# Altium footprint library WQFN24.PcbLib: 1 footprints
Each footprint in its own frame and in the unit in brackets; x right, y up, seen from the top. Pads: shape width x height; smd on the part's side, far side on the other; paste and mask are expansions set on the pad; w line width, h text height; cw(c..) or ccw(c..) is an arc to the next point about the centre after c.
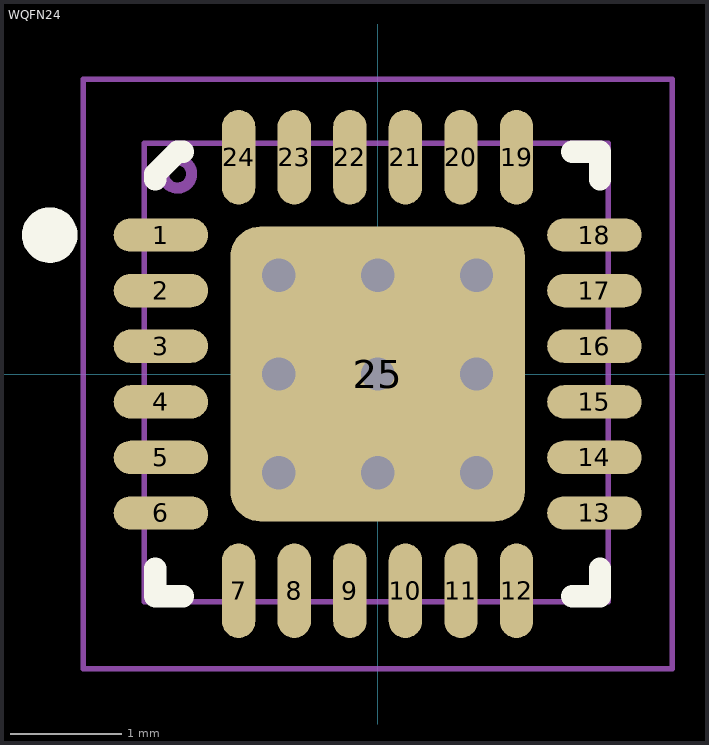
[diagram p0: the footprint, top view; thin cyan lines are the x and y axes]

## WQFN24 [mm]
pads (25):
  oval 0.85x0.3 smd mask+0.05: 1(-1.95,1.25) 2(-1.95,0.75) 3(-1.95,0.25) 4(-1.95,-0.25) 5(-1.95,-0.75) 6(-1.95,-1.25) 13(1.95,-1.25) 14(1.95,-0.75) 15(1.95,-0.25) 16(1.95,0.25) 17(1.95,0.75) 18(1.95,1.25)
  oval 0.3x0.85 smd mask+0.05: 7(-1.25,-1.95) 8(-0.75,-1.95) 9(-0.25,-1.95) 10(0.25,-1.95) 11(0.75,-1.95) 12(1.25,-1.95) 19(1.25,1.95) 20(0.75,1.95) 21(0.25,1.95) 22(-0.25,1.95) 23(-0.75,1.95) 24(-1.25,1.95)
  rrect20% 2.65x2.65 smd paste-100 mask+0.05: 25(0,0)
via 0.889,-0.889 diameter 0.6 hole 0.3
via -0.889,-0.889 diameter 0.6 hole 0.3
via 0.889,0.889 diameter 0.6 hole 0.3
via -0.889,0.889 diameter 0.6 hole 0.3
via 0,0.889 diameter 0.6 hole 0.3
via 0,-0.889 diameter 0.6 hole 0.3
via -0.889,0 diameter 0.6 hole 0.3
via 0.889,0 diameter 0.6 hole 0.3
via 0,0 diameter 0.6 hole 0.3
Top Overlay:
  circle w0.25: c-2.95,1.25 r0.125
  lines w0.2: -2,-1.75 -2,-2 -1.75,-2 ; -2,1.75 -2,1.8 -1.8,2 -1.75,2 ; 1.75,-2 2,-2 2,-1.75 ; 1.75,2 2,2 2,1.75
Top Paste:
  rectangle: -1.2,0.125 -0.125,1.2
  region: 1.2,1.2 0.125,1.2 0.125,0.125 1.2,0.125
  region: 1.2,-0.125 0.125,-0.125 0.125,-1.2 1.2,-1.2
  rectangle: -1.2,-1.2 -0.125,-0.125
Top Assembly:
  circle w0.1: c-1.8,1.8 r0.127
  lines w0.05: -2.1,-2.05 2.075,-2.05 2.075,2.075 -2.1,2.075 -2.1,-2.05
  text "'.Designator'" at -1.673,-0.1 h0.3
Top Courtyard:
  circle w0.05: c0,0 r0.35
  lines w0.05: -0.5,0 0.5,0 ; 0,-0.5 0,0.5 ; -2.65,-2.65 2.65,-2.65 2.65,2.65 -2.65,2.65 -2.65,-2.65
3D body "QFN50P400X400X80-25N-S265.stp": height 0.8, standoff 0, extent -2.075,-2.075 2.075,2.075